# EAGLE library part 10118193-0001LF (library 10118193-0001LF)
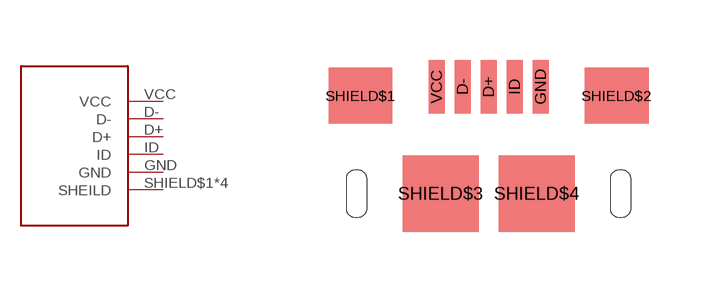
[diagram p0: symbol with the pads of 10118193-0001LF; footprint 10118193-0001LF]

Designator prefix J

## 10118193-0001LF  [10118193-0001LF]
D+  D+
D-  D-
GND  GND
ID  ID
SHIELD$1  SHEILD
SHIELD$2  SHEILD
SHIELD$3  SHEILD
SHIELD$4  SHEILD
VCC  VCC

## Footprint 10118193-0001LF (pad centres in mm)
smd 0.4 x 1.35: D+ 0,2.675; D- -0.65,2.675; GND 1.3,2.675; ID 0.65,2.675; VCC -1.3,2.675
smd 1.6 x 1.4: SHIELD$1 -3.2,2.45; SHIELD$2 3.2,2.45
smd 1.9 x 1.9: SHIELD$3 -1.2,0; SHIELD$4 1.2,0